# EAGLE library part MEM_LPDDR4X (library !GPLIB_ACTIVE)
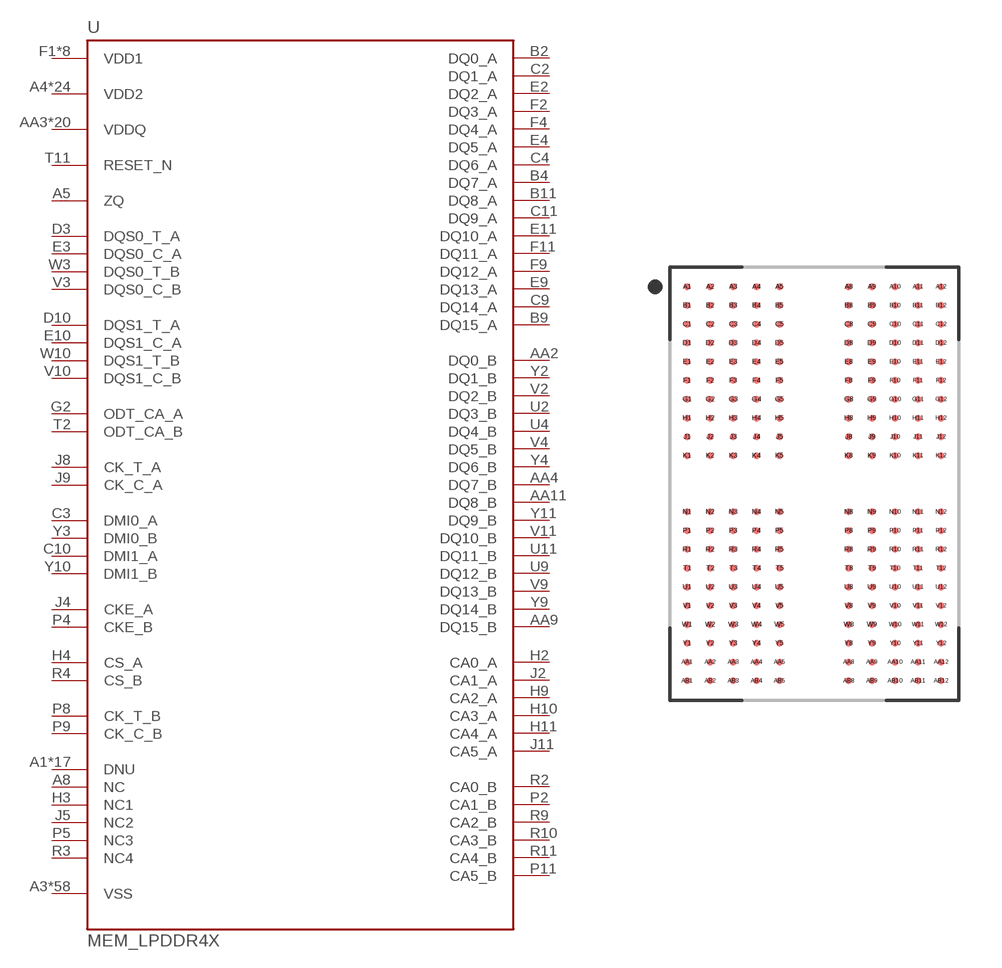
[diagram p121: symbol with the pads of K4F6E3S4HM; footprint K4F6E3S4HM]

Designator prefix U

## MEM_LPDDR4X_MT53E512M32D1ZW-046IT:B  [K4F6E3S4HM]
A1  DNU
A2  DNU
A3  VSS
A4  VDD2
A5  ZQ
A8  NC
A9  VDD2
A10  VSS
A11  DNU
A12  DNU
AA1  DNU
AA2  DQ0_B
AA3  VDDQ
AA4  DQ7_B
AA5  VDDQ
AA8  VDDQ
AA9  DQ15_B
AA10  VDDQ
AA11  DQ8_B
AA12  DNU
AB1  DNU
AB2  DNU
AB3  VSS
AB4  VDD2
AB5  VSS
AB8  VSS
AB9  VDD2
AB10  VSS
AB11  DNU
AB12  DNU
B1  DNU
B2  DQ0_A
B3  VDDQ
B4  DQ7_A
B5  VDDQ
B8  VDDQ
B9  DQ15_A
B10  VDDQ
B11  DQ8_A
B12  DNU
C1  VSS
C2  DQ1_A
C3  DMI0_A
C4  DQ6_A
C5  VSS
C8  VSS
C9  DQ14_A
C10  DMI1_A
C11  DQ9_A
C12  VSS
D1  VDDQ
D2  VSS
D3  DQS0_T_A
D4  VSS
D5  VDDQ
D8  VDDQ
D9  VSS
D10  DQS1_T_A
D11  VSS
D12  VDDQ
E1  VSS
E2  DQ2_A
E3  DQS0_C_A
E4  DQ5_A
E5  VSS
E8  VSS
E9  DQ13_A
E10  DQS1_C_A
E11  DQ10_A
E12  VSS
F1  VDD1
F2  DQ3_A
F3  VDDQ
F4  DQ4_A
F5  VDD2
F8  VDD2
F9  DQ12_A
F10  VDDQ
F11  DQ11_A
F12  VDD1
G1  VSS
G2  ODT_CA_A
G3  VSS
G4  VDD1
G5  VSS
G8  VSS
G9  VDD1
G10  VSS
G11  DNU
G12  VSS
H1  VDD2
H2  CA0_A
H3  NC1
H4  CS_A
H5  VDD2
H8  VDD2
H9  CA2_A
H10  CA3_A
H11  CA4_A
H12  VDD2
J1  VSS
J2  CA1_A
J3  VSS
J4  CKE_A
J5  NC2
J8  CK_T_A
J9  CK_C_A
J10  VSS
J11  CA5_A
J12  VSS
K1  VDD2
K2  VSS
K3  VDD2
K4  VSS
K5  DNU
K8  DNU
K9  VSS
K10  VDD2
K11  VSS
K12  VDD2
N1  VDD2
N2  VSS
N3  VDD2
N4  VSS
N5  DNU
N8  DNU
N9  VSS
N10  VDD2
N11  VSS
N12  VDD2
P1  VSS
P2  CA1_B
P3  VSS
P4  CKE_B
P5  NC3
P8  CK_T_B
P9  CK_C_B
P10  VSS
P11  CA5_B
P12  VSS
R1  VDD2
R2  CA0_B
R3  NC4
R4  CS_B
R5  VDD2
R8  VDD2
R9  CA2_B
R10  CA3_B
R11  CA4_B
R12  VDD2
T1  VSS
T2  ODT_CA_B
T3  VSS
T4  VDD1
T5  VSS
T8  VSS
T9  VDD1
T10  VSS
T11  RESET_N
T12  VSS
U1  VDD1
U2  DQ3_B
U3  VDDQ
U4  DQ4_B
U5  VDD2
U8  VDD2
U9  DQ12_B
U10  VDDQ
U11  DQ11_B
U12  VDD1
V1  VSS
V2  DQ2_B
V3  DQS0_C_B
V4  DQ5_B
V5  VSS
V8  VSS
V9  DQ13_B
V10  DQS1_C_B
V11  DQ10_B
V12  VSS
W1  VDDQ
W2  VSS
W3  DQS0_T_B
W4  VSS
W5  VDDQ
W8  VDDQ
W9  VSS
W10  DQS1_T_B
W11  VSS
W12  VDDQ
Y1  VSS
Y2  DQ1_B
Y3  DMI0_B
Y4  DQ6_B
Y5  VSS
Y8  VSS
Y9  DQ14_B
Y10  DMI1_B
Y11  DQ9_B
Y12  VSS

## Footprint K4F6E3S4HM (pad centres in mm)
264-BGA, collapsing, 0.80 mm col pitch, 0.65 mm row pitch, 10.00 X 15.00 X 0.90 mm body 264-pin collapsing BGA package with 0.80 mm col pitch and 0.65 mm row pitch with body size 15.00 X 10.00 X 0.90 mm
smd 0.25 x 0.25: A1 -4.4,6.825; A2 -3.6,6.825; A3 -2.8,6.825; A4 -2,6.825; A5 -1.2,6.825; A8 1.2,6.825; A9 2,6.825; A10 2.8,6.825; A11 3.6,6.825; A12 4.4,6.825; AA1 -4.4,-6.175; AA2 -3.6,-6.175; AA3 -2.8,-6.175; AA4 -2,-6.175; AA5 -1.2,-6.175; AA8 1.2,-6.175; AA9 2,-6.175; AA10 2.8,-6.175; AA11 3.6,-6.175; AA12 4.4,-6.175; AB1 -4.4,-6.825; AB2 -3.6,-6.825; AB3 -2.8,-6.825; AB4 -2,-6.825; AB5 -1.2,-6.825; AB8 1.2,-6.825; AB9 2,-6.825; AB10 2.8,-6.825; AB11 3.6,-6.825; AB12 4.4,-6.825; B1 -4.4,6.175; B2 -3.6,6.175; B3 -2.8,6.175; B4 -2,6.175; B5 -1.2,6.175; B8 1.2,6.175; B9 2,6.175; B10 2.8,6.175; B11 3.6,6.175; B12 4.4,6.175; C1 -4.4,5.525; C2 -3.6,5.525; C3 -2.8,5.525; C4 -2,5.525; C5 -1.2,5.525; C8 1.2,5.525; C9 2,5.525; C10 2.8,5.525; C11 3.6,5.525; C12 4.4,5.525; D1 -4.4,4.875; D2 -3.6,4.875; D3 -2.8,4.875; D4 -2,4.875; D5 -1.2,4.875; D8 1.2,4.875; D9 2,4.875; D10 2.8,4.875; D11 3.6,4.875; D12 4.4,4.875; E1 -4.4,4.225; E2 -3.6,4.225; E3 -2.8,4.225; E4 -2,4.225; E5 -1.2,4.225; E8 1.2,4.225; E9 2,4.225; E10 2.8,4.225; E11 3.6,4.225; E12 4.4,4.225; F1 -4.4,3.575; F2 -3.6,3.575; F3 -2.8,3.575; F4 -2,3.575; F5 -1.2,3.575; F8 1.2,3.575; F9 2,3.575; F10 2.8,3.575; F11 3.6,3.575; F12 4.4,3.575; G1 -4.4,2.925; G2 -3.6,2.925; G3 -2.8,2.925; G4 -2,2.925; G5 -1.2,2.925; G8 1.2,2.925; G9 2,2.925; G10 2.8,2.925; G11 3.6,2.925; G12 4.4,2.925; H1 -4.4,2.275; H2 -3.6,2.275; H3 -2.8,2.275; H4 -2,2.275; H5 -1.2,2.275; H8 1.2,2.275; H9 2,2.275; H10 2.8,2.275; H11 3.6,2.275; H12 4.4,2.275; J1 -4.4,1.625; J2 -3.6,1.625; J3 -2.8,1.625; J4 -2,1.625; J5 -1.2,1.625; J8 1.2,1.625; J9 2,1.625; J10 2.8,1.625; J11 3.6,1.625; J12 4.4,1.625; K1 -4.4,0.975; K2 -3.6,0.975; K3 -2.8,0.975; K4 -2,0.975; K5 -1.2,0.975; K8 1.2,0.975; K9 2,0.975; K10 2.8,0.975; K11 3.6,0.975; K12 4.4,0.975; N1 -4.4,-0.975; N2 -3.6,-0.975; N3 -2.8,-0.975; N4 -2,-0.975; N5 -1.2,-0.975; N8 1.2,-0.975; N9 2,-0.975; N10 2.8,-0.975; N11 3.6,-0.975; N12 4.4,-0.975; P1 -4.4,-1.625; P2 -3.6,-1.625; P3 -2.8,-1.625; P4 -2,-1.625; P5 -1.2,-1.625; P8 1.2,-1.625; P9 2,-1.625; P10 2.8,-1.625; P11 3.6,-1.625; P12 4.4,-1.625; R1 -4.4,-2.275; R2 -3.6,-2.275; R3 -2.8,-2.275; R4 -2,-2.275; R5 -1.2,-2.275; R8 1.2,-2.275; R9 2,-2.275; R10 2.8,-2.275; R11 3.6,-2.275; R12 4.4,-2.275; T1 -4.4,-2.925; T2 -3.6,-2.925; T3 -2.8,-2.925; T4 -2,-2.925; T5 -1.2,-2.925; T8 1.2,-2.925; T9 2,-2.925; T10 2.8,-2.925; T11 3.6,-2.925; T12 4.4,-2.925; U1 -4.4,-3.575; U2 -3.6,-3.575; U3 -2.8,-3.575; U4 -2,-3.575; U5 -1.2,-3.575; U8 1.2,-3.575; U9 2,-3.575; U10 2.8,-3.575; U11 3.6,-3.575; U12 4.4,-3.575; V1 -4.4,-4.225; V2 -3.6,-4.225; V3 -2.8,-4.225; V4 -2,-4.225; V5 -1.2,-4.225; V8 1.2,-4.225; V9 2,-4.225; V10 2.8,-4.225; V11 3.6,-4.225; V12 4.4,-4.225; W1 -4.4,-4.875; W2 -3.6,-4.875; W3 -2.8,-4.875; W4 -2,-4.875; W5 -1.2,-4.875; W8 1.2,-4.875; W9 2,-4.875; W10 2.8,-4.875; W11 3.6,-4.875; W12 4.4,-4.875; Y1 -4.4,-5.525; Y2 -3.6,-5.525; Y3 -2.8,-5.525; Y4 -2,-5.525; Y5 -1.2,-5.525; Y8 1.2,-5.525; Y9 2,-5.525; Y10 2.8,-5.525; Y11 3.6,-5.525; Y12 4.4,-5.525